# Altium integrated library Roket_Library.IntLib: 15 symbols
Pins are listed as number, name and electrical type; pins without a type are passive.

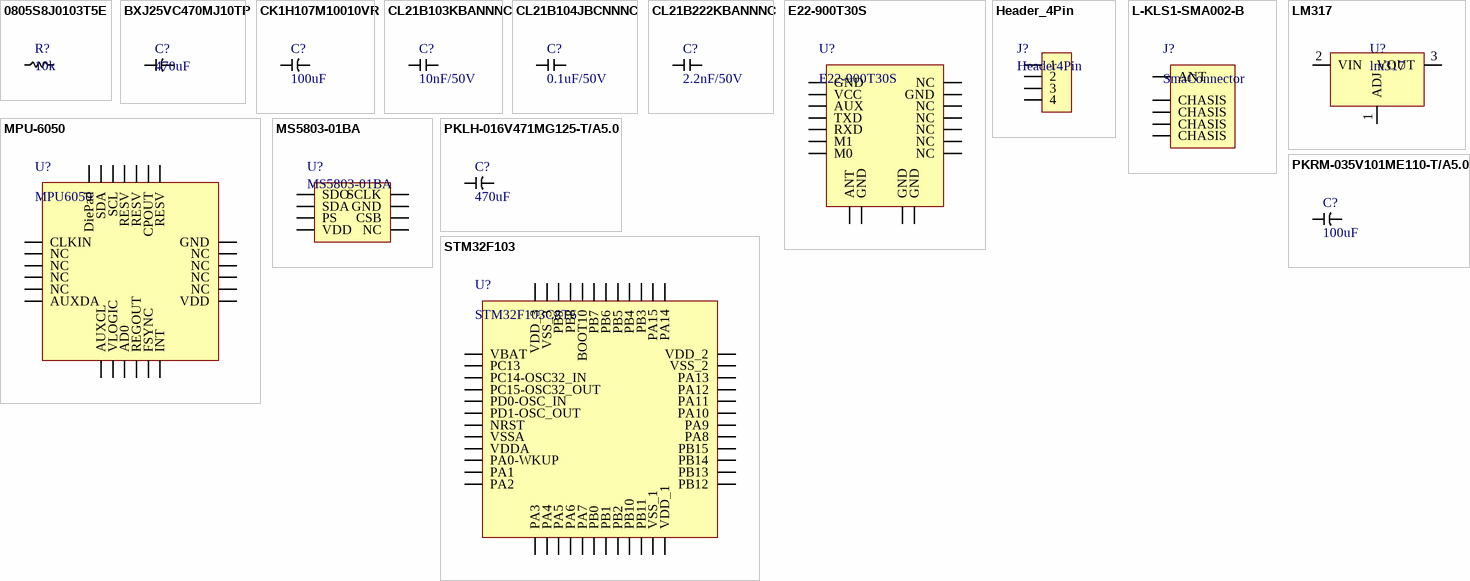
[diagram p0: symbols 0805S8J0103T5E to STM32F103]

## 0805S8J0103T5E
designator R?, comment 10k
RES.(2012) 0805 10K Ohms 5% 1/8W-S 100PPM
footprint RES_0805 (SMD Resistor)
pins: 1, 2

## BXJ25VC470MJ10TP
designator C?, comment 470uF
CAP.EL.470uF 25V 10x10 105C 5000Hrs SMD; ComponentLink1Description: özdisan; ComponentLink1URL: https://ozdisan.com/passive-components/capacitors/aluminum-capacitors/BXJ25VC470MJ10TP
footprint BXJ25VC470MJ10TP (CAP_Elec_10x10)
pins: 1, 2

## CK1H107M10010VR
designator C?, comment 100uF
CAP.EL.100uF 50V 10x10 105C SMD SAMWHA; ComponentLink1Description: özdisan; ComponentLink1URL: https://ozdisan.com/passive-components/capacitors/aluminum-capacitors/CK1H107M10010VR
footprint BXJ25VC470MJ10TP (CAP_Elec_10x10)
pins: 1, 2

## CL21B103KBANNNC
designator C?, comment 10nF/50V
MLCC (2012) 0805 10nF 50VDC ±10% X7R; ComponentLink1Description: özdisan; ComponentLink1URL: https://ozdisan.com/Product/Detail/5607/CL21B103KBANNNC
footprint Cap_0805 (MLCC_Capacitor)
pins: 1, 2

## CL21B104JBCNNNC
designator C?, comment 0.1uF/50V
MLCC (2012) 0805 100nF 50VDC ±5% X7R; ComponentLink1Description: özdisan; ComponentLink1URL: CL21B104JBCNNNC
footprint Cap_0805 (MLCC_Capacitor)
pins: 1, 2

## CL21B222KBANNNC
designator C?, comment 2.2nF/50V
MLCC (2012) 0805 2.2nF 50VDC ±10% X7R
pins: 1 2, 1 2

## E22-900T30S
designator U?
LoRa, 868MHz 1W SMD long range, 5V Supply,RF Transmission 30 dBm, 10 k; ComponentLink1Description: M2M; ComponentLink1URL: https://www.m2mmarket.com.tr/lora-868mhz-1w-smd-long-range-5v-supplyrf-transmission-30-dbm-10-k-2153
footprint E22-900T30S (RF_Transceiver)
pins: 1 M0, 2 M1, 3 RXD, 4 TXD, 5 AUX, 6 VCC, 7 GND, 8 NC, 9 GND, 10 NC, 11 NC, 12 NC, 13 NC, 14 NC, 15 GND, 16 GND, 17 GND, 18 ANT

## Header_4Pin
designator J?, comment Header4Pin
PIN HEADER 4PIN(1x4) 2.54mm THT V/T
footprint Header_4pin_Female
footprint HEADER_4PIN_MALE
footprint HEADER_4PIN_MALE_Ra
pins: 1, 2, 3, 4

## L-KLS1-SMA002-B
designator J?, comment SmaConnector
RP-SMA Connector Receptacle, Male Pin 50Ohm Through Hole, Right Angle Solder; ComponentLink1Description: özdisan; ComponentLink1URL: https://ozdisan.com/connectors-and-interconnects/coaxial-connectors/sma-connectors/L-KLS1-SMA002-B
footprint RightAngled_SMA_Connector (SMA_Connector)
pins: 1 ANT, 2 CHASIS, 3 CHASIS, 4 CHASIS, 5 CHASIS

## LM317
designator U?, comment lm317
IC-317 V.REG LDO ADJ 1.5A D2PAK (TO263)
pins: 1 ADJ, 2 VIN, 3 VOUT

## MPU-6050
designator U?, comment MPU6050
IC-6050 SENSOR MOTION QFN24
footprint QFN24 (MPU6050)
pins: 1 CLKIN, 2 NC, 3 NC, 4 NC, 5 NC, 6 AUXDA, 7 AUXCL, 8 VLOGIC, 9 AD0, 10 REGOUT, 11 FSYNC, 12 INT, 13 VDD, 14 NC, 15 NC, 16 NC, 17 NC, 18 GND, 19 RESV, 20 CPOUT, 21 RESV, 22 RESV, 23 SCL, 24 SDA, 25 DiePad

## MS5803-01BA
designator U?
Pressure Sensor 0.15PSI ~ 18.85PSI (1kPa ~ 130kPa) Absolute 24 b 8-SMD Module
footprint MS5803-01BA (pressure sensor)
pins: 1 SCLK, 2 GND, 3 CSB, 4 NC, 5 VDD, 6 PS, 7 SDA, 8 SDO

## PKLH-016V471MG125-T/A5.0
designator C?, comment 470uF
CAP.EL.470uF 16V 10x12.5 5MM 105C L.ESR 3000H TB K; ComponentLink1Description: özdisan; ComponentLink1URL: https://ozdisan.com/passive-components/capacitors/aluminum-capacitors/CK1H107M10010VR
footprint PKLH-016V471MG125-T/A5.0 (CAP.EL.470uF 16V 10x12.5 5MM 105C L.ESR 3000H TB K)
pins: 1, 2

## PKRM-035V101ME110-T/A5.0
designator C?, comment 100uF
CAP.EL.100uF 50V 10x10 105C TH; ComponentLink1Description: özdisan; ComponentLink1URL: https://ozdisan.com/passive-components/capacitors/aluminum-capacitors/CK1H107M10010VR
footprint PKRM-035V101ME110-T/A5.0 (CAP.EL.100uF 35V 6.3x11MM 5MM 105C TB KOSHIN)
pins: 1, 2

## STM32F103
designator U?, comment STM32F103C8T6
ARM® Cortex®-M3 STM32F1 Microcontroller IC 32-Bit 72MHz 64KB (64K x 8) FLASH /; ComponentLink1Description: özdisan; ComponentLink1URL: STM32F103C8T6
footprint LQFP48STM32 (TSQFP, 48-Leads, Body 7,00x7,00mm, Pitch 0,50mm, IPC Medium Density)
pins: 1 VBAT, 2 PC13, 3 PC14-OSC32_IN, 4 PC15-OSC32_OUT, 5 PD0-OSC_IN, 6 PD1-OSC_OUT, 7 NRST, 8 VSSA, 9 VDDA, 10 PA0-WKUP, 11 PA1, 12 PA2, 13 PA3, 14 PA4, 15 PA5, 16 PA6, 17 PA7, 18 PB0, 19 PB1, 20 PB2, 21 PB10, 22 PB11, 23 VSS_1, 24 VDD_1, 25 PB12, 26 PB13, 27 PB14, 28 PB15, 29 PA8, 30 PA9, 31 PA10, 32 PA11, 33 PA12, 34 PA13, 35 VSS_2, 36 VDD_2, 37 PA14, 38 PA15, 39 PB3, 40 PB4, 41 PB5, 42 PB6, 43 PB7, 44 BOOT10, 45 PB8, 46 PB9, 47 VSS_3, 48 VDD_3